# EAGLE library part 61306421021 (library Wuerth_Elektronik_eiCan_Pin_&_Socked_Headers_v1.3)
WR-PHD 2.54mm Angled Dual Pin Header, 64 Pins
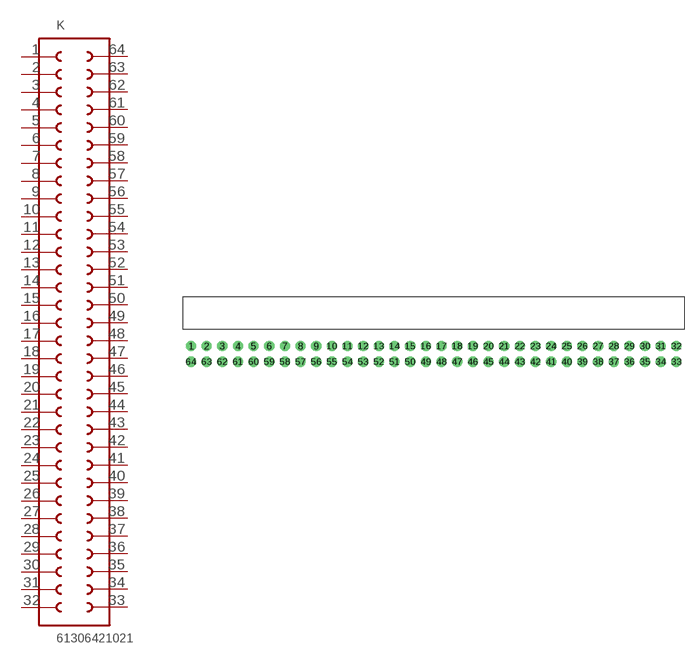
[diagram p65: symbol with the pads of 61306421021; footprint 61306421021]

Designator prefix K

## 61306421021  [61306421021]
1  1  pas
2  2  pas
3  3  pas
4  4  pas
5  5  pas
6  6  pas
7  7  pas
8  8  pas
9  9  pas
10  10  pas
11  11  pas
12  12  pas
13  13  pas
14  14  pas
15  15  pas
16  16  pas
17  17  pas
18  18  pas
19  19  pas
20  20  pas
21  21  pas
22  22  pas
23  23  pas
24  24  pas
25  25  pas
26  26  pas
27  27  pas
28  28  pas
29  29  pas
30  30  pas
31  31  pas
32  32  pas
33  33  pas
34  34  pas
35  35  pas
36  36  pas
37  37  pas
38  38  pas
39  39  pas
40  40  pas
41  41  pas
42  42  pas
43  43  pas
44  44  pas
45  45  pas
46  46  pas
47  47  pas
48  48  pas
49  49  pas
50  50  pas
51  51  pas
52  52  pas
53  53  pas
54  54  pas
55  55  pas
56  56  pas
57  57  pas
58  58  pas
59  59  pas
60  60  pas
61  61  pas
62  62  pas
63  63  pas
64  64  pas

## Footprint 61306421021 (pad centres in mm)
WR-PHD 2.54mm Angled Dual Pin Header, 64 Pins
drill 1.1 round: 1 -39.37,1.27; 2 -36.83,1.27; 3 -34.29,1.27; 4 -31.75,1.27; 5 -29.21,1.27; 6 -26.67,1.27; 7 -24.13,1.27; 8 -21.59,1.27; 9 -19.05,1.27; 10 -16.51,1.27; 11 -13.97,1.27; 12 -11.43,1.27; 13 -8.89,1.27; 14 -6.35,1.27; 15 -3.81,1.27; 16 -1.27,1.27; 17 1.27,1.27; 18 3.81,1.27; 19 6.35,1.27; 20 8.89,1.27; 21 11.43,1.27; 22 13.97,1.27; 23 16.51,1.27; 24 19.05,1.27; 25 21.59,1.27; 26 24.13,1.27; 27 26.67,1.27; 28 29.21,1.27; 29 31.75,1.27; 30 34.29,1.27; 31 36.83,1.27; 32 39.37,1.27; 33 39.37,-1.27; 34 36.83,-1.27; 35 34.29,-1.27; 36 31.75,-1.27; 37 29.21,-1.27; 38 26.67,-1.27; 39 24.13,-1.27; 40 21.59,-1.27; 41 19.05,-1.27; 42 16.51,-1.27; 43 13.97,-1.27; 44 11.43,-1.27; 45 8.89,-1.27; 46 6.35,-1.27; 47 3.81,-1.27; 48 1.27,-1.27; 49 -1.27,-1.27; 50 -3.81,-1.27; 51 -6.35,-1.27; 52 -8.89,-1.27; 53 -11.43,-1.27; 54 -13.97,-1.27; 55 -16.51,-1.27; 56 -19.05,-1.27; 57 -21.59,-1.27; 58 -24.13,-1.27; 59 -26.67,-1.27; 60 -29.21,-1.27; 61 -31.75,-1.27; 62 -34.29,-1.27; 63 -36.83,-1.27; 64 -39.37,-1.27